# EAGLE library part TEF6686 (library TEF6686)
Library for TEF6686 tuner created by Nicu FLORICA (niq_ro)
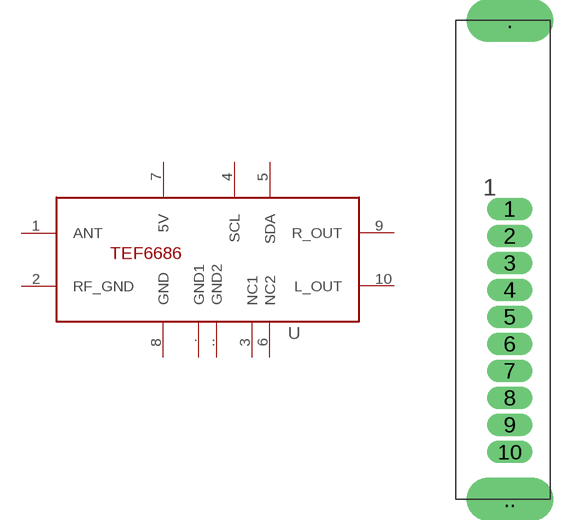
[diagram p0: symbol with the pads of TEF6686; footprint TEF6686]

Designator prefix -

## TEF6686  [TEF6686]
1  ANT
2  RF_GND
3  NC1
4  SCL
5  SDA
6  NC2
7  5V
8  GND
9  R_OUT
10  L_OUT
.  GND1
..  GND2

## Footprint TEF6686 (pad centres in mm)
Library for TEF6686 created by Nicu FLORICA (niq_ro)
drill 0.8 pad 1.676 long: 1 0,10; 2 0,8; 3 0,6; 4 0,4; 5 0,2; 6 0,0; 7 0,-2; 8 0,-4; 9 0,-6; 10 0,-8
drill 2.2 pad 1.778 long: . 0,24; .. 0,-11.5